# EAGLE library part 18F1320 (library -redpic-microchip-pic)
Microchip PIC 18F1320 (18F1320,18F1220)
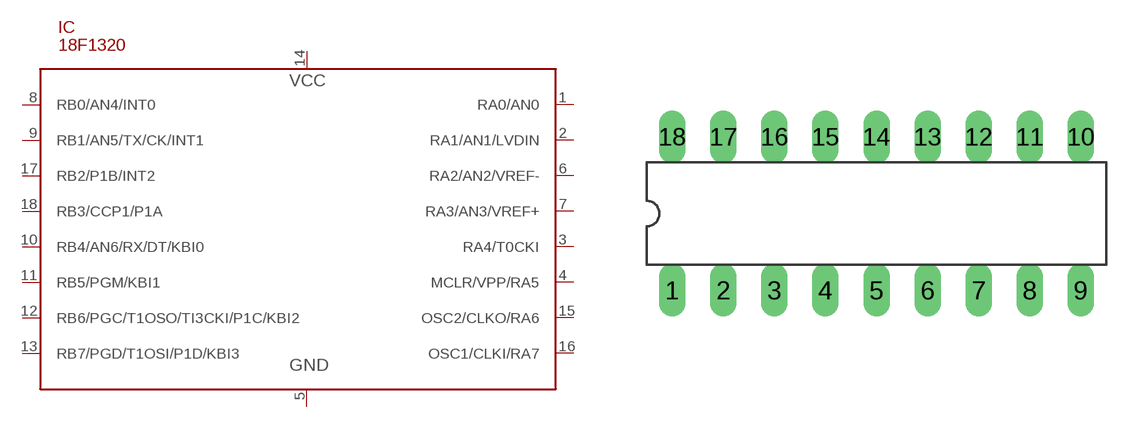
[diagram p3: symbol with the pads of PDIP18; footprint PDIP18]

Designator prefix IC

## 18F1320  [PDIP18]
1  RA0/AN0
2  RA1/AN1/LVDIN
3  RA4/T0CKI
4  MCLR/VPP/RA5  in
5  GND  pwr
6  RA2/AN2/VREF-
7  RA3/AN3/VREF+
8  RB0/AN4/INT0
9  RB1/AN5/TX/CK/INT1
10  RB4/AN6/RX/DT/KBI0
11  RB5/PGM/KBI1
12  RB6/PGC/T1OSO/TI3CKI/P1C/KBI2
13  RB7/PGD/T1OSI/P1D/KBI3
14  VCC  pwr
15  OSC2/CLKO/RA6
16  OSC1/CLKI/RA7
17  RB2/P1B/INT2
18  RB3/CCP1/P1A

## Footprint PDIP18 (pad centres in mm)
Dual in Line
drill 0.813 long: 1 0,1.27; 2 2.54,1.27; 3 5.08,1.27; 4 7.62,1.27; 5 10.16,1.27; 6 12.7,1.27; 7 15.24,1.27; 8 17.78,1.27; 9 20.32,1.27; 10 20.32,8.89; 11 17.78,8.89; 12 15.24,8.89; 13 12.7,8.89; 14 10.16,8.89; 15 7.62,8.89; 16 5.08,8.89; 17 2.54,8.89; 18 0,8.89